# Altium schematic symbol library RES-TEMP.SchLib: 1 symbol
Pins are listed as number, name and electrical type; pins without a type are passive.

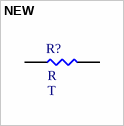
[diagram p0: symbol NEW]

## NEW
designator R?  Resistance: R  Tolerance: T  (hidden comment: NEW)
[DESC]; ComponentLink1Description: Datasheet
pins: 1, 2